# Altium integrated library Diodes - TVS.IntLib: 5379 symbols (part 24 of 122)
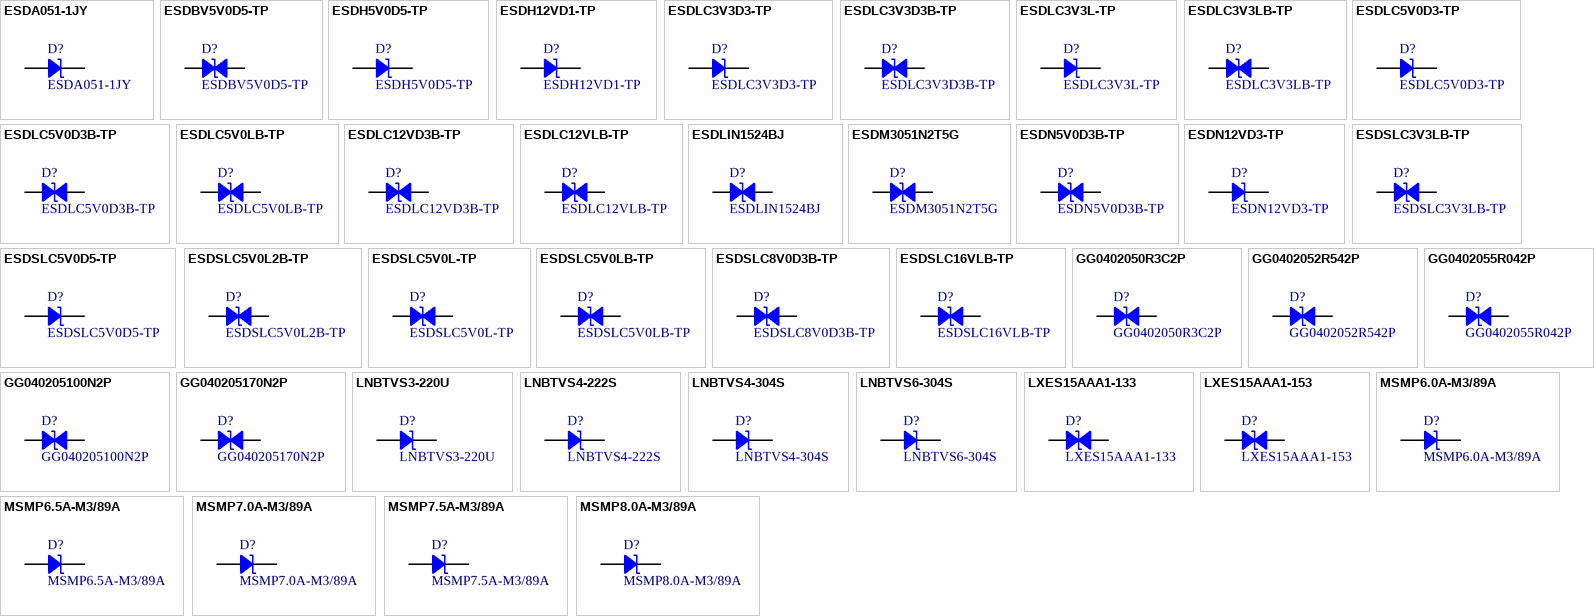
[diagram p157: symbols ESDA051-1JY to MSMP8.0A-M3/89A]

## ESDN5V0D3B-TP
designator D?
5V, ESD PROTECTION DEVICES, SOD-; Manufacturer: Micro Commercial Co; Bidirectional Channels: 1; Capacitance @ Frequency: 300pF @ 1MHz (Max); Current - Peak Pulse (10/1000µs): 120A (8/20µs); Power Line Protection: No; Power - Peak Pulse: 1620W; Type: Zener; Voltage - Breakdown (Min): 6V; Voltage - Clamping (Max) @ Ipp: 13.5V; Voltage - Reverse Standoff (Typ): 5V (Max); Part Number: ESDN5V0D3B-TP; Applications: General Purpose; ComponentLink1Description: Datasheet; ComponentLink1URL: https://mccsemi.com/pdf/Products/ESDN5V0D3B(SOD-323)-V1.pdf; ComponentLink2Description: DigiKey Link; ComponentLink2URL: http://digikey.com/product-detail/en/micro-commercial-co/ESDN5V0D3B-TP/353-ESDN5V0D3B-TPCT-ND/12177247; LastUpdated: 8/30/2020 9:07:52 PM; Lifecycle Status: Active; Minimum Order: 1; Mounting Type: Surface Mount; Operating Temperature: -55°C ~ 125°C (TJ); Package / Case: SC-76, SOD-323; Packaging: Unknown; PartId: 11459; Price: 0.06; Supplier 1: DigiKey; Supplier Part Number 1: 353-ESDN5V0D3B-TPCT-ND; Supplier Device Package: SOD-323
footprint SOD323
pins: 1, 2

## ESDN12VD3-TP
designator D?
TVS DIODE 12V 27V SOD323; Manufacturer: Micro Commercial Co; Current - Peak Pulse (10/1000µs): 20A (8/20µs); Power Line Protection: No; Power - Peak Pulse: 990W; Type: Zener; Unidirectional Channels: 1; Voltage - Breakdown (Min): 13V; Voltage - Reverse Standoff (Typ): 12V (Max); Part Number: ESDN12VD3-TP; Applications: General Purpose; ComponentLink1Description: Datasheet; ComponentLink1URL: https://www.mccsemi.com/pdf/Products/ESDN12VD3(SOD-323)-A.pdf; ComponentLink2Description: DigiKey Link; ComponentLink2URL: http://digikey.com/product-detail/en/micro-commercial-co/ESDN12VD3-TP/ESDN12VD3-TPMSCT-ND/6004821; LastUpdated: 9/2/2020 1:28:27 AM; Lifecycle Status: Active; Minimum Order: 1; Mounting Type: Surface Mount; Operating Temperature: -55°C ~ 150°C (TJ); Package / Case: SC-76, SOD-323; Packaging: TapeAndReel; PartId: 9886; Part Status: Active; Price: 0.13; Series: -; Supplier 1: DigiKey; Supplier Part Number 1: ESDN12VD3-TPMSCT-ND; Supplier Device Package: SOD-323; Voltage - Clamping (Max) @ Ipp: 27V
footprint SOD323
pins: 1, 2

## ESDSLC3V3LB-TP
designator D?
TVS DIODE 3.3V 20V DFN1006-2; Manufacturer: Micro Commercial Co; Bidirectional Channels: 1; Capacitance @ Frequency: 0.25pF @ 1MHz; Current - Peak Pulse (10/1000µs): 5A (8/20µs); Power Line Protection: No; Power - Peak Pulse: 100W; Type: Zener; Voltage - Breakdown (Min): 5V; Voltage - Reverse Standoff (Typ): 3.3V (Max); Part Number: ESDSLC3V3LB-TP; Applications: General Purpose; ComponentLink1Description: Datasheet; ComponentLink1URL: https://www.mccsemi.com/pdf/Products/ESDSLC3V3LB(DFN1006-2)-B.pdf; ComponentLink2Description: DigiKey Link; ComponentLink2URL: http://digikey.com/product-detail/en/micro-commercial-co/ESDSLC3V3LB-TP/ESDSLC3V3LB-TPMSCT-ND/7681673; Device Package: 0402 (1006 Metric); LastUpdated: 9/2/2020 1:28:48 AM; Lifecycle Status: Active; Minimum Order: 1; Mounting Type: Surface Mount; Operating Temperature: -55°C ~ 125°C (TJ); Package / Case: 0402 (1006 Metric); Packaging: TapeAndReel; PartId: 10421; Part Status: Active; Price: 0.04; Series: -; Supplier 1: DigiKey; Supplier Part Number 1: ESDSLC3V3LB-TPMSCT-ND; Supplier Device Package: DFN1006-2; Voltage - Clamping (Max) @ Ipp: 20V
footprint 0402
pins: 1, 2

## ESDSLC5V0D5-TP
designator D?
ESD PROTECTION DEVICESSOD-523; Manufacturer: Micro Commercial Co; Capacitance @ Frequency: 0.5pF @ 1MHz; Current - Peak Pulse (10/1000µs): 5A (8/20µs); Power Line Protection: No; Power - Peak Pulse: 80W; Type: Zener; Unidirectional Channels: 1; Voltage - Breakdown (Min): 6V; Voltage - Clamping (Max) @ Ipp: 16V; Voltage - Reverse Standoff (Typ): 5V (Max); Part Number: ESDSLC5V0D5-TP; Applications: General Purpose; ComponentLink1Description: Datasheet; ComponentLink1URL: https://www.mccsemi.com/pdf/Products/ESDSLC5V0D5(SOD-523)-V1.pdf; ComponentLink2Description: DigiKey Link; ComponentLink2URL: http://digikey.com/product-detail/en/micro-commercial-co/ESDSLC5V0D5-TP/ESDSLC5V0D5-TPMSCT-ND/10054352; LastUpdated: 9/2/2020 1:28:24 AM; Lifecycle Status: Active; Minimum Order: 1; Mounting Type: Surface Mount; Operating Temperature: -55°C ~ 125°C (TJ); Package / Case: SC-79, SOD-523; Packaging: TapeAndReel; PartId: 9789; Part Status: Active; Price: 0.05; Series: -; Supplier 1: DigiKey; Supplier Part Number 1: ESDSLC5V0D5-TPMSCT-ND; Supplier Device Package: SOD-523
footprint SOD523F
pins: 1, 2

## ESDSLC5V0L2B-TP
designator D?
5.5V, ESD PROTECTION DEVICES, DF; Manufacturer: Micro Commercial Co; Bidirectional Channels: 1; Capacitance @ Frequency: 0.15pF @ 1MHz; Current - Peak Pulse (10/1000µs): 3A (8/20µs); Power Line Protection: No; Power - Peak Pulse: 40W; Type: Zener; Voltage - Breakdown (Min): 6.5V; Voltage - Clamping (Max) @ Ipp: 15V; Voltage - Reverse Standoff (Typ): 5.5V (Max); Part Number: ESDSLC5V0L2B-TP; Applications: General Purpose; ComponentLink1Description: Datasheet; ComponentLink1URL: https://mccsemi.com/pdf/Products/ESDSLC5V0L2B(DFN1006-2L)-V1.pdf; ComponentLink2Description: DigiKey Link; ComponentLink2URL: http://digikey.com/product-detail/en/micro-commercial-co/ESDSLC5V0L2B-TP/353-ESDSLC5V0L2B-TPCT-ND/12177299; LastUpdated: 8/30/2020 9:08:11 PM; Lifecycle Status: Active; Minimum Order: 1; Mounting Type: Surface Mount; Operating Temperature: -55°C ~ 150°C (TJ); Package / Case: 0402 (1006 Metric); Packaging: Unknown; PartId: 11464; Price: 0.03; Supplier 1: DigiKey; Supplier Part Number 1: 353-ESDSLC5V0L2B-TPCT-ND; Supplier Device Package: DFN1006-2L
footprint 0402
pins: 1, 2

## ESDSLC5V0L-TP
designator D?
TVS DIODE 5V DFN1006-2; Manufacturer: Micro Commercial Co; Bidirectional Channels: 1; Capacitance @ Frequency: 0.5pF @ 1MHz; Current - Peak Pulse (10/1000µs): 4A (8/20µs); Power Line Protection: Yes; Power - Peak Pulse: 80W; Type: Zener; Voltage - Breakdown (Min): 6V; Voltage - Clamping (Max) @ Ipp: 16V; Voltage - Reverse Standoff (Typ): 5V (Max); Part Number: ESDSLC5V0L-TP; Applications: General Purpose; ComponentLink1Description: Datasheet; ComponentLink1URL: https://www.mccsemi.com/pdf/Products/ESDSLC5V0L(DFN1006-2)-V1.pdf; ComponentLink2Description: DigiKey Link; ComponentLink2URL: http://digikey.com/product-detail/en/micro-commercial-co/ESDSLC5V0L-TP/ESDSLC5V0L-TPMSCT-ND/10054448; Device Package: 0402 (1006 Metric); LastUpdated: 9/2/2020 1:28:48 AM; Lifecycle Status: Active; Minimum Order: 1; Mounting Type: Surface Mount; Operating Temperature: -55°C ~ 125°C (TJ); Package / Case: 0402 (1006 Metric); Packaging: TapeAndReel; PartId: 10425; Part Status: Active; Price: 0.05; Series: -; Supplier 1: DigiKey; Supplier Part Number 1: ESDSLC5V0L-TPMSCT-ND; Supplier Device Package: DFN1006-2
footprint 0402
pins: 1, 2

## ESDSLC5V0LB-TP
designator D?
TVS DIODE 5V 20V DFN1006; Manufacturer: Micro Commercial Co; Bidirectional Channels: 1; Capacitance @ Frequency: 0.26pF @ 1MHz; Current - Peak Pulse (10/1000µs): 4A (8/20µs); Power Line Protection: No; Power - Peak Pulse: 80W; Type: Zener; Voltage - Breakdown (Min): 6V; Voltage - Reverse Standoff (Typ): 5V (Max); Part Number: ESDSLC5V0LB-TP; Applications: General Purpose; ComponentLink1Description: Datasheet; ComponentLink1URL: https://www.mccsemi.com/pdf/Products/ESDSLC5V0LB(DFN1006-2)-A.pdf; ComponentLink2Description: DigiKey Link; ComponentLink2URL: http://digikey.com/product-detail/en/micro-commercial-co/ESDSLC5V0LB-TP/ESDSLC5V0LB-TPMSCT-ND/6004823; Device Package: 0402 (1006 Metric); LastUpdated: 9/2/2020 1:28:49 AM; Lifecycle Status: Active; Minimum Order: 1; Mounting Type: Surface Mount; Operating Temperature: -55°C ~ 125°C (TJ); Package / Case: 0402 (1006 Metric); Packaging: TapeAndReel; PartId: 10472; Part Status: Active; Price: 0.03; Series: -; Supplier 1: DigiKey; Supplier Part Number 1: ESDSLC5V0LB-TPMSCT-ND; Supplier Device Package: DFN1006; Voltage - Clamping (Max) @ Ipp: 20V
footprint 0402
pins: 1, 2

## ESDSLC8V0D3B-TP
designator D?
ESD PROTECTION DEVICESSOD-323; Manufacturer: Micro Commercial Co; Bidirectional Channels: 1; Capacitance @ Frequency: 1pF @ 1MHz; Current - Peak Pulse (10/1000µs): 18A (8/20µs); Power Line Protection: No; Power - Peak Pulse: 350W; Type: Zener; Voltage - Breakdown (Min): 8.5V; Voltage - Clamping (Max) @ Ipp: 19.5V; Voltage - Reverse Standoff (Typ): 8V (Max); Part Number: ESDSLC8V0D3B-TP; Applications: General Purpose; ComponentLink1Description: Datasheet; ComponentLink1URL: https://www.mccsemi.com/pdf/Products/ESDSLC8V0D3B(SOD-323)-V1.pdf; ComponentLink2Description: DigiKey Link; ComponentLink2URL: http://digikey.com/product-detail/en/micro-commercial-co/ESDSLC8V0D3B-TP/ESDSLC8V0D3B-TPMSCT-ND/10054353; LastUpdated: 9/2/2020 1:28:29 AM; Lifecycle Status: Active; Minimum Order: 1; Mounting Type: Surface Mount; Operating Temperature: -55°C ~ 150°C (TJ); Package / Case: SC-76, SOD-323; Packaging: TapeAndReel; PartId: 9976; Part Status: Active; Price: 0.08; Series: -; Supplier 1: DigiKey; Supplier Part Number 1: ESDSLC8V0D3B-TPMSCT-ND; Supplier Device Package: SOD-323
footprint SOD323
pins: 1, 2

## ESDSLC16VLB-TP
designator D?
TVS DIODE 16V 30V DFN1006-2; Manufacturer: Micro Commercial Co; Bidirectional Channels: 1; Capacitance @ Frequency: 0.7pF @ 1MHz; Current - Peak Pulse (10/1000µs): 1A (8/20µs); Power Line Protection: No; Power - Peak Pulse: 30W; Type: Zener; Voltage - Breakdown (Min): 18V; Voltage - Reverse Standoff (Typ): 16V (Max); Part Number: ESDSLC16VLB-TP; Applications: General Purpose; ComponentLink1Description: Datasheet; ComponentLink1URL: https://www.mccsemi.com/pdf/Products/ESDSLC16VLB(DFN1006-2)-A.pdf; ComponentLink2Description: DigiKey Link; ComponentLink2URL: http://digikey.com/product-detail/en/micro-commercial-co/ESDSLC16VLB-TP/ESDSLC16VLB-TPMSCT-ND/6004822; Device Package: 0402 (1006 Metric); LastUpdated: 9/2/2020 1:28:49 AM; Lifecycle Status: Active; Minimum Order: 1; Mounting Type: Surface Mount; Operating Temperature: -55°C ~ 125°C (TJ); Package / Case: 0402 (1006 Metric); Packaging: TapeAndReel; PartId: 10473; Part Status: Active; Price: 0.03; Series: -; Supplier 1: DigiKey; Supplier Part Number 1: ESDSLC16VLB-TPMSCT-ND; Supplier Device Package: DFN1006-2; Voltage - Clamping (Max) @ Ipp: 30V
footprint 0402
pins: 1, 2

## GG0402050R3C2P
designator D?
TVS DIODE 5V 15.5V 0402; Manufacturer: AVX Corporation; Bidirectional Channels: 1; Capacitance @ Frequency: 0.3pF @ 1MHz; Current - Peak Pulse (10/1000µs): 3A (8/20µs); Power Line Protection: No; Power - Peak Pulse: 46W; Type: Zener; Voltage - Breakdown (Min): 7V; Part Number: GG0402050R3C2P; Applications: General Purpose; ComponentLink1Description: Datasheet; ComponentLink1URL: http://datasheets.avx.com/AVX-GiGuard.pdf; ComponentLink2Description: DigiKey Link; ComponentLink2URL: http://digikey.com/product-detail/en/avx-corporation/GG0402050R3C2P/478-10591-1-ND/6826549; Device Package: 0402 (1005 Metric); LastUpdated: 9/2/2020 1:28:49 AM; Lifecycle Status: Active; Minimum Order: 1; Mounting Type: Surface Mount; Operating Temperature: 125°C; Package / Case: 0402 (1005 Metric); Packaging: TapeAndReel; PartId: 10447; Part Status: Active; Price: 0.05; Series: GiGUARD; Supplier 1: DigiKey; Supplier Part Number 1: 478-10591-1-ND; Supplier Device Package: 0402 (1005 Metric); Voltage - Clamping (Max) @ Ipp: 15.5V; Voltage - Reverse Standoff (Typ): 5V
footprint 0402
pins: 1, 2

## GG0402052R542P
designator D?
TVS DIODE 5V 15.5V 0402; Manufacturer: AVX Corporation; Bidirectional Channels: 1; Capacitance @ Frequency: 2.5pF @ 1MHz; Current - Peak Pulse (10/1000µs): 3A (8/20µs); Power Line Protection: No; Power - Peak Pulse: 46W; Type: Zener; Voltage - Breakdown (Min): 5.5V; Part Number: GG0402052R542P; Applications: General Purpose; ComponentLink1Description: Datasheet; ComponentLink1URL: http://datasheets.avx.com/AVX-GiGuard.pdf; ComponentLink2Description: DigiKey Link; ComponentLink2URL: http://digikey.com/product-detail/en/avx-corporation/GG0402052R542P/478-10592-1-ND/6826550; Device Package: 0402 (1005 Metric); LastUpdated: 9/2/2020 1:28:48 AM; Lifecycle Status: Active; Minimum Order: 1; Mounting Type: Surface Mount; Operating Temperature: 125°C; Package / Case: 0402 (1005 Metric); Packaging: TapeAndReel; PartId: 10423; Part Status: Active; Price: 0.04; Series: GiGUARD; Supplier 1: DigiKey; Supplier Part Number 1: 478-10592-1-ND; Supplier Device Package: 0402 (1005 Metric); Voltage - Clamping (Max) @ Ipp: 15.5V; Voltage - Reverse Standoff (Typ): 5V
footprint 0402
pins: 1, 2

## GG0402055R042P
designator D?
TVS DIODE 5V 16V 0402; Manufacturer: AVX Corporation; Bidirectional Channels: 1; Capacitance @ Frequency: 5pF @ 1MHz; Current - Peak Pulse (10/1000µs): 4A (8/20µs); Power Line Protection: No; Power - Peak Pulse: 60W; Type: Zener; Voltage - Breakdown (Min): 5.2V; Part Number: GG0402055R042P; Applications: General Purpose; ComponentLink1Description: Datasheet; ComponentLink1URL: http://datasheets.avx.com/AVX-GiGuard.pdf; ComponentLink2Description: DigiKey Link; ComponentLink2URL: http://digikey.com/product-detail/en/avx-corporation/GG0402055R042P/478-10593-1-ND/6826551; Device Package: 0402 (1005 Metric); LastUpdated: 9/2/2020 1:28:49 AM; Lifecycle Status: Active; Minimum Order: 1; Mounting Type: Surface Mount; Operating Temperature: 125°C; Package / Case: 0402 (1005 Metric); Packaging: TapeAndReel; PartId: 10499; Part Status: Active; Price: 0.04; Series: GiGUARD; Supplier 1: DigiKey; Supplier Part Number 1: 478-10593-1-ND; Supplier Device Package: 0402 (1005 Metric); Voltage - Clamping (Max) @ Ipp: 16V; Voltage - Reverse Standoff (Typ): 5V
footprint 0402
pins: 1, 2

## GG040205100N2P
designator D?
TVS DIODE 5V 12V 0402; Manufacturer: AVX Corporation; Bidirectional Channels: 1; Capacitance @ Frequency: 10pF @ 1MHz; Current - Peak Pulse (10/1000µs): 8A (8/20µs); Power Line Protection: No; Power - Peak Pulse: 96W; Type: Zener; Voltage - Breakdown (Min): 5.5V; Part Number: GG040205100N2P; Applications: General Purpose; ComponentLink1Description: Datasheet; ComponentLink1URL: http://datasheets.avx.com/AVX-GiGuard.pdf; ComponentLink2Description: DigiKey Link; ComponentLink2URL: http://digikey.com/product-detail/en/avx-corporation/GG040205100N2P/478-10594-1-ND/6826552; Device Package: 0402 (1005 Metric); LastUpdated: 9/2/2020 1:28:49 AM; Lifecycle Status: Active; Minimum Order: 1; Mounting Type: Surface Mount; Operating Temperature: 125°C; Package / Case: 0402 (1005 Metric); Packaging: TapeAndReel; PartId: 10449; Part Status: Active; Price: 0.04; Series: GiGUARD; Supplier 1: DigiKey; Supplier Part Number 1: 478-10594-1-ND; Supplier Device Package: 0402 (1005 Metric); Voltage - Clamping (Max) @ Ipp: 12V; Voltage - Reverse Standoff (Typ): 5V
footprint 0402
pins: 1, 2

## GG040205170N2P
designator D?
TVS DIODE 5V 10V 0402; Manufacturer: AVX Corporation; Bidirectional Channels: 1; Capacitance @ Frequency: 17pF @ 1MHz; Current - Peak Pulse (10/1000µs): 8A (8/20µs); Power Line Protection: No; Power - Peak Pulse: 80W; Type: Zener; Voltage - Breakdown (Min): 5.1V; Part Number: GG040205170N2P; Applications: General Purpose; ComponentLink1Description: Datasheet; ComponentLink1URL: http://datasheets.avx.com/AVX-GiGuard.pdf; ComponentLink2Description: DigiKey Link; ComponentLink2URL: http://digikey.com/product-detail/en/avx-corporation/GG040205170N2P/478-10595-1-ND/6826553; Device Package: 0402 (1005 Metric); LastUpdated: 9/2/2020 1:28:49 AM; Lifecycle Status: Active; Minimum Order: 1; Mounting Type: Surface Mount; Operating Temperature: 125°C; Package / Case: 0402 (1005 Metric); Packaging: TapeAndReel; PartId: 10450; Part Status: Active; Price: 0.04; Series: GiGUARD; Supplier 1: DigiKey; Supplier Part Number 1: 478-10595-1-ND; Supplier Device Package: 0402 (1005 Metric); Voltage - Clamping (Max) @ Ipp: 10V; Voltage - Reverse Standoff (Typ): 5V
footprint 0402
pins: 1, 2

## LNBTVS3-220U
designator D?
TVS DIODE 20V 35V SMB; Manufacturer: STMicroelectronics; Current - Peak Pulse (10/1000µs): 250A (8/20µs); Power Line Protection: No; Power - Peak Pulse: 22500 (22.5kW); Type: Zener; Unidirectional Channels: 1; Voltage - Breakdown (Min): 22V; Part Number: LNBTVS3-220U; Applications: General Purpose; ComponentLink1Description: Datasheet; ComponentLink1URL: http://www.st.com/content/ccc/resource/technical/document/datasheet/b0/6e/bc/89/3c/f1/41/b5/CD00283815.pdf/files/CD00283815.pdf/jcr:content/translations/en.CD00283815.pdf; ComponentLink2Description: DigiKey Link; ComponentLink2URL: http://digikey.com/product-detail/en/stmicroelectronics/LNBTVS3-220U/497-4991-1-ND/1007442; LastUpdated: 9/2/2020 1:19:51 AM; Lifecycle Status: Active; Minimum Order: 1; Mounting Type: Surface Mount; Operating Temperature: -55°C ~ 150°C (TJ); Package / Case: DO-214AA, SMB; Packaging: TapeAndReel; PartId: 11338; Part Status: Active; Price: 0.31; Series: LNBTVS, TRANSIL™; Supplier 1: DigiKey; Supplier Part Number 1: 497-4991-1-ND; Supplier Device Package: SMB (DO-214AA); Voltage - Clamping (Max) @ Ipp: 35V; Voltage - Reverse Standoff (Typ): 20V
footprint DO214AA SMB
pins: 1, 2

## LNBTVS4-222S
designator D?
TVS DIODE 20V 30V SMC; Manufacturer: STMicroelectronics; Current - Peak Pulse (10/1000µs): 334A (8/20µs); Power Line Protection: No; Power - Peak Pulse: 22500 (22.5kW); Type: Zener; Unidirectional Channels: 1; Voltage - Breakdown (Min): 22V; Part Number: LNBTVS4-222S; Applications: General Purpose; ComponentLink1Description: Datasheet; ComponentLink1URL: http://www.st.com/content/ccc/resource/technical/document/datasheet/b0/6e/bc/89/3c/f1/41/b5/CD00283815.pdf/files/CD00283815.pdf/jcr:content/translations/en.CD00283815.pdf; ComponentLink2Description: DigiKey Link; ComponentLink2URL: http://digikey.com/product-detail/en/stmicroelectronics/LNBTVS4-222S/497-4996-1-ND/1007447; LastUpdated: 9/2/2020 1:20:05 AM; Lifecycle Status: Active; Minimum Order: 1; Mounting Type: Surface Mount; Operating Temperature: -55°C ~ 150°C (TJ); Package / Case: DO-214AB, SMC; Packaging: TapeAndReel; PartId: 6978; Part Status: Active; Price: 0.52; Series: LNBTVS, TRANSIL™; Supplier 1: DigiKey; Supplier Part Number 1: 497-4996-1-ND; Supplier Device Package: SMC; Voltage - Clamping (Max) @ Ipp: 30V; Voltage - Reverse Standoff (Typ): 20V
footprint DO214AB SMC
pins: 1, 2

## LNBTVS4-304S
designator D?
TVS DIODE 28V 45V SMC; Manufacturer: STMicroelectronics; Current - Peak Pulse (10/1000µs): 334A (8/20µs); Power Line Protection: No; Power - Peak Pulse: 22500 (22.5kW); Type: Zener; Unidirectional Channels: 1; Voltage - Breakdown (Min): 30V; Part Number: LNBTVS4-304S; Applications: General Purpose; ComponentLink1Description: Datasheet; ComponentLink1URL: http://www.st.com/content/ccc/resource/technical/document/datasheet/b0/6e/bc/89/3c/f1/41/b5/CD00283815.pdf/files/CD00283815.pdf/jcr:content/translations/en.CD00283815.pdf; ComponentLink2Description: DigiKey Link; ComponentLink2URL: http://digikey.com/product-detail/en/stmicroelectronics/LNBTVS4-304S/497-12495-1-ND/2864662; LastUpdated: 9/2/2020 1:20:05 AM; Lifecycle Status: Active; Minimum Order: 1; Mounting Type: Surface Mount; Operating Temperature: -55°C ~ 150°C (TJ); Package / Case: DO-214AB, SMC; Packaging: TapeAndReel; PartId: 6959; Part Status: Active; Price: 0.69; Series: LNBTVS, TRANSIL™; Supplier 1: DigiKey; Supplier Part Number 1: 497-12495-1-ND; Supplier Device Package: SMC; Voltage - Clamping (Max) @ Ipp: 45V; Voltage - Reverse Standoff (Typ): 28V
footprint DO214AB SMC
pins: 1, 2

## LNBTVS6-304S
designator D?
TVS DIODE 28V 45V SMC; Manufacturer: STMicroelectronics; Current - Peak Pulse (10/1000µs): 500A (8/20µs); Power Line Protection: No; Power - Peak Pulse: 22500 (22.5kW); Type: Zener; Unidirectional Channels: 1; Voltage - Breakdown (Min): 30V; Part Number: LNBTVS6-304S; Applications: General Purpose; ComponentLink1Description: Datasheet; ComponentLink1URL: http://www.st.com/content/ccc/resource/technical/document/datasheet/b0/6e/bc/89/3c/f1/41/b5/CD00283815.pdf/files/CD00283815.pdf/_jcr_content/translations/en.CD00283815.pdf; ComponentLink2Description: DigiKey Link; ComponentLink2URL: http://digikey.com/product-detail/en/stmicroelectronics/LNBTVS6-304S/497-16437-1-ND/5974910; LastUpdated: 9/2/2020 1:20:05 AM; Lifecycle Status: Active; Minimum Order: 1; Mounting Type: Surface Mount; Operating Temperature: -55°C ~ 150°C (TJ); Package / Case: DO-214AB, SMC; Packaging: TapeAndReel; PartId: 6951; Part Status: Active; Price: 0.77; Series: LNBTVS, TRANSIL™; Supplier 1: DigiKey; Supplier Part Number 1: 497-16437-1-ND; Supplier Device Package: SMC; Voltage - Clamping (Max) @ Ipp: 45V; Voltage - Reverse Standoff (Typ): 28V
footprint DO214AB SMC
pins: 1, 2

## LXES15AAA1-133
designator D?
TVS DIODE 15V 1005; Manufacturer: Murata Electronics; Bidirectional Channels: 1; Capacitance @ Frequency: 0.05pF @ 1MHz; Power Line Protection: No; Type: Zener; Part Number: LXES15AAA1-133; Applications: General Purpose; ComponentLink1Description: Datasheet; ComponentLink1URL: https://www.murata.com/en-us/products/productdata/8796832759838/CRESD-E.pdf; ComponentLink2Description: DigiKey Link; ComponentLink2URL: http://digikey.com/product-detail/en/murata-electronics/LXES15AAA1-133/490-13209-2-ND/5843761; Device Package: 0402 (1005 Metric); LastUpdated: 9/2/2020 1:28:48 AM; Lifecycle Status: Active; Minimum Order: 0; Mounting Type: Surface Mount; Operating Temperature: -40°C ~ 85°C (TA); Package / Case: 0402 (1005 Metric); Packaging: TapeAndReel; PartId: 10424; Part Status: Active; Price: 0.04; Series: -; Supplier 1: DigiKey; Supplier Part Number 1: 490-13209-2-ND; Supplier Device Package: 1005; Voltage - Reverse Standoff (Typ): 15V
footprint 0402
pins: 1, 2

## LXES15AAA1-153
designator D?
TVS DIODE 4V 1005; Manufacturer: Murata Electronics; Bidirectional Channels: 1; Capacitance @ Frequency: 0.05pF @ 1MHz; Power Line Protection: No; Type: Zener; Part Number: LXES15AAA1-153; Applications: General Purpose; ComponentLink1Description: Datasheet; ComponentLink1URL: https://www.murata.com/en-us/products/productdata/8796832759838/CRESD-E.pdf; ComponentLink2Description: DigiKey Link; ComponentLink2URL: http://digikey.com/product-detail/en/murata-electronics/LXES15AAA1-153/490-13210-2-ND/5843762; Device Package: 0402 (1005 Metric); LastUpdated: 9/2/2020 1:28:49 AM; Lifecycle Status: Active; Minimum Order: 0; Mounting Type: Surface Mount; Operating Temperature: -40°C ~ 85°C (TA); Package / Case: 0402 (1005 Metric); Packaging: TapeAndReel; PartId: 10448; Part Status: Active; Price: 0.04; Series: -; Supplier 1: DigiKey; Supplier Part Number 1: 490-13210-2-ND; Supplier Device Package: 1005; Voltage - Reverse Standoff (Typ): 4V
footprint 0402
pins: 1, 2

## MSMP6.0A-M3/89A
designator D?
TVS DIODE 6VWM 10.3VC MICROSMP; Manufacturer: Vishay Semiconductor Diodes Division; Current - Peak Pulse (10/1000µs): 14.6A; Power Line Protection: No; Power - Peak Pulse: 150W; Type: Zener; Unidirectional Channels: 1; Voltage - Breakdown (Min): 6.67V; Voltage - Clamping (Max) @ Ipp: 10.3V; Voltage - Reverse Standoff (Typ): 6V; Part Number: MSMP6.0A-M3/89A; Applications: General Purpose; ComponentLink1Description: Datasheet; ComponentLink1URL: http://www.vishay.com/docs/89457/msmp6athrumsmp20a.pdf; ComponentLink2Description: DigiKey Link; ComponentLink2URL: http://digikey.com/product-detail/en/vishay-semiconductor-diodes-division/MSMP6.0A-M3-89A/MSMP6.0A-M3-89AGICT-ND/8535694; Device Package: MicroSMP; LastUpdated: 9/2/2020 1:28:32 AM; Lifecycle Status: Active; Minimum Order: 1; Mounting Type: Surface Mount; Operating Temperature: -55°C ~ 150°C (TJ); Package / Case: MicroSMP; Packaging: TapeAndReel; PartId: 10000; Part Status: Active; Price: 0.07; Series: TransZorb®; Supplier 1: DigiKey; Supplier Part Number 1: MSMP6.0A-M3/89AGICT-ND; Supplier Device Package: MicroSMP
footprint DO-219AD MicroSMP
pins: 1, 2

## MSMP6.5A-M3/89A
designator D?
TVS DIODE 6.5VWM 11.2VC MICROSMP; Manufacturer: Vishay Semiconductor Diodes Division; Current - Peak Pulse (10/1000µs): 13.4A; Power Line Protection: No; Power - Peak Pulse: 150W; Type: Zener; Unidirectional Channels: 1; Voltage - Breakdown (Min): 7.22V; Voltage - Clamping (Max) @ Ipp: 11.2V; Voltage - Reverse Standoff (Typ): 6.5V; Part Number: MSMP6.5A-M3/89A; Applications: General Purpose; ComponentLink1Description: Datasheet; ComponentLink1URL: http://www.vishay.com/docs/89457/msmp6athrumsmp20a.pdf; ComponentLink2Description: DigiKey Link; ComponentLink2URL: http://digikey.com/product-detail/en/vishay-semiconductor-diodes-division/MSMP6.5A-M3-89A/MSMP6.5A-M3-89AGICT-ND/8535695; Device Package: MicroSMP; LastUpdated: 9/2/2020 1:28:32 AM; Lifecycle Status: Active; Minimum Order: 1; Mounting Type: Surface Mount; Operating Temperature: -55°C ~ 150°C (TJ); Package / Case: MicroSMP; Packaging: TapeAndReel; PartId: 10001; Part Status: Active; Price: 0.07; Series: TransZorb®; Supplier 1: DigiKey; Supplier Part Number 1: MSMP6.5A-M3/89AGICT-ND; Supplier Device Package: MicroSMP
footprint DO-219AD MicroSMP
pins: 1, 2

## MSMP7.0A-M3/89A
designator D?
TVS DIODE 7VWM 12VC MICROSMP; Manufacturer: Vishay Semiconductor Diodes Division; Current - Peak Pulse (10/1000µs): 12.5A; Power Line Protection: No; Power - Peak Pulse: 150W; Type: Zener; Unidirectional Channels: 1; Voltage - Breakdown (Min): 7.78V; Voltage - Clamping (Max) @ Ipp: 12V; Voltage - Reverse Standoff (Typ): 7V; Part Number: MSMP7.0A-M3/89A; Applications: General Purpose; ComponentLink1Description: Datasheet; ComponentLink1URL: http://www.vishay.com/docs/89457/msmp6athrumsmp20a.pdf; ComponentLink2Description: DigiKey Link; ComponentLink2URL: http://digikey.com/product-detail/en/vishay-semiconductor-diodes-division/MSMP7.0A-M3-89A/MSMP7.0A-M3-89AGICT-ND/8535696; Device Package: MicroSMP; LastUpdated: 9/2/2020 1:28:32 AM; Lifecycle Status: Active; Minimum Order: 1; Mounting Type: Surface Mount; Operating Temperature: -55°C ~ 150°C (TJ); Package / Case: MicroSMP; Packaging: TapeAndReel; PartId: 10008; Part Status: Active; Price: 0.07; Series: TransZorb®; Supplier 1: DigiKey; Supplier Part Number 1: MSMP7.0A-M3/89AGICT-ND; Supplier Device Package: MicroSMP
footprint DO-219AD MicroSMP
pins: 1, 2

## MSMP7.5A-M3/89A
designator D?
TVS DIODE 7.5VWM 12.9VC MICROSMP; Manufacturer: Vishay Semiconductor Diodes Division; Current - Peak Pulse (10/1000µs): 11.6A; Power Line Protection: No; Power - Peak Pulse: 150W; Type: Zener; Unidirectional Channels: 1; Voltage - Breakdown (Min): 8.33V; Voltage - Clamping (Max) @ Ipp: 12.9V; Voltage - Reverse Standoff (Typ): 7.5V; Part Number: MSMP7.5A-M3/89A; Applications: General Purpose; ComponentLink1Description: Datasheet; ComponentLink1URL: http://www.vishay.com/docs/89457/msmp6athrumsmp20a.pdf; ComponentLink2Description: DigiKey Link; ComponentLink2URL: http://digikey.com/product-detail/en/vishay-semiconductor-diodes-division/MSMP7.5A-M3-89A/MSMP7.5A-M3-89AGICT-ND/8535697; Device Package: MicroSMP; LastUpdated: 9/2/2020 1:28:32 AM; Lifecycle Status: Active; Minimum Order: 1; Mounting Type: Surface Mount; Operating Temperature: -55°C ~ 150°C (TJ); Package / Case: MicroSMP; Packaging: TapeAndReel; PartId: 10007; Part Status: Active; Price: 0.07; Series: TransZorb®; Supplier 1: DigiKey; Supplier Part Number 1: MSMP7.5A-M3/89AGICT-ND; Supplier Device Package: MicroSMP
footprint DO-219AD MicroSMP
pins: 1, 2

## MSMP8.0A-M3/89A
designator D?
TVS DIODE 8VWM 13.6VC MICROSMP; Manufacturer: Vishay Semiconductor Diodes Division; Current - Peak Pulse (10/1000µs): 11A; Power Line Protection: No; Power - Peak Pulse: 150W; Type: Zener; Unidirectional Channels: 1; Voltage - Breakdown (Min): 8.89V; Voltage - Clamping (Max) @ Ipp: 13.6V; Voltage - Reverse Standoff (Typ): 8V; Part Number: MSMP8.0A-M3/89A; Applications: General Purpose; ComponentLink1Description: Datasheet; ComponentLink1URL: http://www.vishay.com/docs/89457/msmp6athrumsmp20a.pdf; ComponentLink2Description: DigiKey Link; ComponentLink2URL: http://digikey.com/product-detail/en/vishay-semiconductor-diodes-division/MSMP8.0A-M3-89A/MSMP8.0A-M3-89AGICT-ND/8535698; Device Package: MicroSMP; LastUpdated: 9/2/2020 1:28:32 AM; Lifecycle Status: Active; Minimum Order: 1; Mounting Type: Surface Mount; Operating Temperature: -55°C ~ 150°C (TJ); Package / Case: MicroSMP; Packaging: TapeAndReel; PartId: 10006; Part Status: Active; Price: 0.07; Series: TransZorb®; Supplier 1: DigiKey; Supplier Part Number 1: MSMP8.0A-M3/89AGICT-ND; Supplier Device Package: MicroSMP
footprint DO-219AD MicroSMP
pins: 1, 2

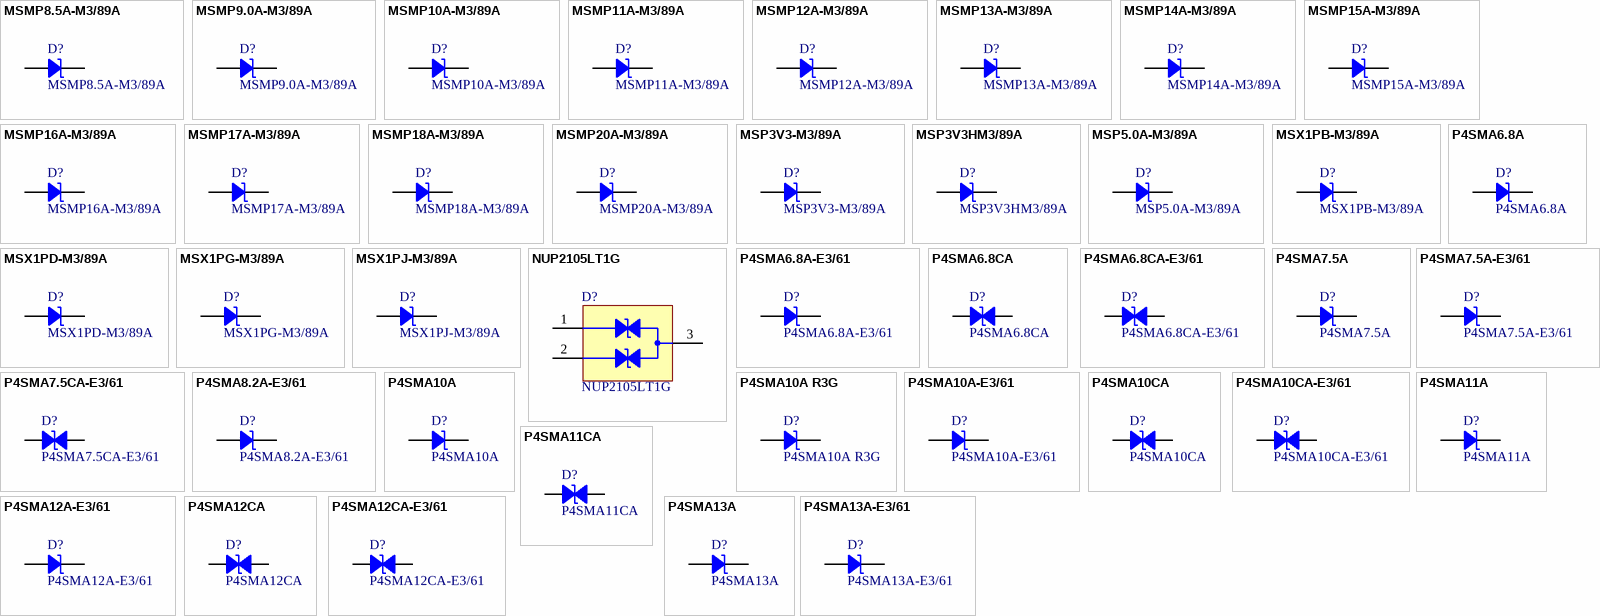
[diagram p26: symbols MSMP8.5A-M3/89A to P4SMA13A-E3/61]

## MSMP8.5A-M3/89A
designator D?
TVS DIODE 8.5VWM 14.4VC MICROSMP; Manufacturer: Vishay Semiconductor Diodes Division; Current - Peak Pulse (10/1000µs): 10.4A; Power Line Protection: No; Power - Peak Pulse: 150W; Type: Zener; Unidirectional Channels: 1; Voltage - Breakdown (Min): 9.44V; Voltage - Clamping (Max) @ Ipp: 14.4V; Voltage - Reverse Standoff (Typ): 8.5V; Part Number: MSMP8.5A-M3/89A; Applications: General Purpose; ComponentLink1Description: Datasheet; ComponentLink1URL: http://www.vishay.com/docs/89457/msmp6athrumsmp20a.pdf; ComponentLink2Description: DigiKey Link; ComponentLink2URL: http://digikey.com/product-detail/en/vishay-semiconductor-diodes-division/MSMP8.5A-M3-89A/MSMP8.5A-M3-89AGICT-ND/8535699; Device Package: MicroSMP; LastUpdated: 9/2/2020 1:28:32 AM; Lifecycle Status: Active; Minimum Order: 1; Mounting Type: Surface Mount; Operating Temperature: -55°C ~ 150°C (TJ); Package / Case: MicroSMP; Packaging: TapeAndReel; PartId: 10010; Part Status: Active; Price: 0.06; Series: TransZorb®; Supplier 1: DigiKey; Supplier Part Number 1: MSMP8.5A-M3/89AGICT-ND; Supplier Device Package: MicroSMP
footprint DO-219AD MicroSMP
pins: 1, 2

## MSMP9.0A-M3/89A
designator D?
TVS DIODE 9VWM 15.4VC MICROSMP; Manufacturer: Vishay Semiconductor Diodes Division; Current - Peak Pulse (10/1000µs): 9.7A; Power Line Protection: No; Power - Peak Pulse: 150W; Type: Zener; Unidirectional Channels: 1; Voltage - Breakdown (Min): 10V; Voltage - Clamping (Max) @ Ipp: 15.4V; Voltage - Reverse Standoff (Typ): 9V; Part Number: MSMP9.0A-M3/89A; Applications: General Purpose; ComponentLink1Description: Datasheet; ComponentLink1URL: http://www.vishay.com/docs/89457/msmp6athrumsmp20a.pdf; ComponentLink2Description: DigiKey Link; ComponentLink2URL: http://digikey.com/product-detail/en/vishay-semiconductor-diodes-division/MSMP9.0A-M3-89A/MSMP9.0A-M3-89AGICT-ND/8535700; Device Package: MicroSMP; LastUpdated: 9/2/2020 1:28:32 AM; Lifecycle Status: Active; Minimum Order: 1; Mounting Type: Surface Mount; Operating Temperature: -55°C ~ 150°C (TJ); Package / Case: MicroSMP; Packaging: TapeAndReel; PartId: 10009; Part Status: Active; Price: 0.06; Series: TransZorb®; Supplier 1: DigiKey; Supplier Part Number 1: MSMP9.0A-M3/89AGICT-ND; Supplier Device Package: MicroSMP
footprint DO-219AD MicroSMP
pins: 1, 2

## MSMP10A-M3/89A
designator D?
TVS DIODE 10VWM 17VC MICROSMP; Manufacturer: Vishay Semiconductor Diodes Division; Current - Peak Pulse (10/1000µs): 8.8A; Power Line Protection: No; Power - Peak Pulse: 150W; Type: Zener; Unidirectional Channels: 1; Voltage - Breakdown (Min): 11.1V; Voltage - Clamping (Max) @ Ipp: 17V; Voltage - Reverse Standoff (Typ): 10V; Part Number: MSMP10A-M3/89A; Applications: General Purpose; ComponentLink1Description: Datasheet; ComponentLink1URL: http://www.vishay.com/docs/89457/msmp6athrumsmp20a.pdf; ComponentLink2Description: DigiKey Link; ComponentLink2URL: http://digikey.com/product-detail/en/vishay-semiconductor-diodes-division/MSMP10A-M3-89A/MSMP10A-M3-89AGICT-ND/8535684; Device Package: MicroSMP; LastUpdated: 9/2/2020 1:28:32 AM; Lifecycle Status: Active; Minimum Order: 1; Mounting Type: Surface Mount; Operating Temperature: -55°C ~ 150°C (TJ); Package / Case: MicroSMP; Packaging: TapeAndReel; PartId: 10017; Part Status: Active; Price: 0.06; Series: TransZorb®; Supplier 1: DigiKey; Supplier Part Number 1: MSMP10A-M3/89AGICT-ND; Supplier Device Package: MicroSMP
footprint DO-219AD MicroSMP
pins: 1, 2

## MSMP11A-M3/89A
designator D?
TVS DIODE 11VWM 18.2VC MICROSMP; Manufacturer: Vishay Semiconductor Diodes Division; Current - Peak Pulse (10/1000µs): 8.2A; Power Line Protection: No; Power - Peak Pulse: 150W; Type: Zener; Unidirectional Channels: 1; Voltage - Breakdown (Min): 12.2V; Voltage - Clamping (Max) @ Ipp: 18.2V; Voltage - Reverse Standoff (Typ): 11V; Part Number: MSMP11A-M3/89A; Applications: General Purpose; ComponentLink1Description: Datasheet; ComponentLink1URL: http://www.vishay.com/docs/89457/msmp6athrumsmp20a.pdf; ComponentLink2Description: DigiKey Link; ComponentLink2URL: http://digikey.com/product-detail/en/vishay-semiconductor-diodes-division/MSMP11A-M3-89A/MSMP11A-M3-89AGICT-ND/8535685; Device Package: MicroSMP; LastUpdated: 9/2/2020 1:28:32 AM; Lifecycle Status: Active; Minimum Order: 1; Mounting Type: Surface Mount; Operating Temperature: -55°C ~ 150°C (TJ); Package / Case: MicroSMP; Packaging: TapeAndReel; PartId: 10019; Part Status: Active; Price: 0.06; Series: TransZorb®; Supplier 1: DigiKey; Supplier Part Number 1: MSMP11A-M3/89AGICT-ND; Supplier Device Package: MicroSMP
footprint DO-219AD MicroSMP
pins: 1, 2

## MSMP12A-M3/89A
designator D?
TVS DIODE 12VWM 19.9VC MICROSMP; Manufacturer: Vishay Semiconductor Diodes Division; Current - Peak Pulse (10/1000µs): 7.5A; Power Line Protection: No; Power - Peak Pulse: 150W; Type: Zener; Unidirectional Channels: 1; Voltage - Breakdown (Min): 13.3V; Voltage - Clamping (Max) @ Ipp: 19.9V; Voltage - Reverse Standoff (Typ): 12V; Part Number: MSMP12A-M3/89A; Applications: General Purpose; ComponentLink1Description: Datasheet; ComponentLink1URL: http://www.vishay.com/docs/89457/msmp6athrumsmp20a.pdf; ComponentLink2Description: DigiKey Link; ComponentLink2URL: http://digikey.com/product-detail/en/vishay-semiconductor-diodes-division/MSMP12A-M3-89A/MSMP12A-M3-89AGICT-ND/8535686; Device Package: MicroSMP; LastUpdated: 9/2/2020 1:28:32 AM; Lifecycle Status: Active; Minimum Order: 1; Mounting Type: Surface Mount; Operating Temperature: -55°C ~ 150°C (TJ); Package / Case: MicroSMP; Packaging: TapeAndReel; PartId: 10016; Part Status: Active; Price: 0.06; Series: TransZorb®; Supplier 1: DigiKey; Supplier Part Number 1: MSMP12A-M3/89AGICT-ND; Supplier Device Package: MicroSMP
footprint DO-219AD MicroSMP
pins: 1, 2

## MSMP13A-M3/89A
designator D?
TVS DIODE 13VWM 21.5VC MICROSMP; Manufacturer: Vishay Semiconductor Diodes Division; Current - Peak Pulse (10/1000µs): 7A; Power Line Protection: No; Power - Peak Pulse: 150W; Type: Zener; Unidirectional Channels: 1; Voltage - Breakdown (Min): 14.4V; Voltage - Clamping (Max) @ Ipp: 21.5V; Voltage - Reverse Standoff (Typ): 13V; Part Number: MSMP13A-M3/89A; Applications: General Purpose; ComponentLink1Description: Datasheet; ComponentLink1URL: http://www.vishay.com/docs/89457/msmp6athrumsmp20a.pdf; ComponentLink2Description: DigiKey Link; ComponentLink2URL: http://digikey.com/product-detail/en/vishay-semiconductor-diodes-division/MSMP13A-M3-89A/MSMP13A-M3-89AGICT-ND/8535687; Device Package: MicroSMP; LastUpdated: 9/2/2020 1:28:32 AM; Lifecycle Status: Active; Minimum Order: 1; Mounting Type: Surface Mount; Operating Temperature: -55°C ~ 150°C (TJ); Package / Case: MicroSMP; Packaging: TapeAndReel; PartId: 10015; Part Status: Active; Price: 0.06; Series: TransZorb®; Supplier 1: DigiKey; Supplier Part Number 1: MSMP13A-M3/89AGICT-ND; Supplier Device Package: MicroSMP
footprint DO-219AD MicroSMP
pins: 1, 2

## MSMP14A-M3/89A
designator D?
TVS DIODE 14VWM 23.2VC MICROSMP; Manufacturer: Vishay Semiconductor Diodes Division; Current - Peak Pulse (10/1000µs): 6.5A; Power Line Protection: No; Power - Peak Pulse: 150W; Type: Zener; Unidirectional Channels: 1; Voltage - Breakdown (Min): 15.6V; Voltage - Clamping (Max) @ Ipp: 23.2V; Voltage - Reverse Standoff (Typ): 14V; Part Number: MSMP14A-M3/89A; Applications: General Purpose; ComponentLink1Description: Datasheet; ComponentLink1URL: http://www.vishay.com/docs/89457/msmp6athrumsmp20a.pdf; ComponentLink2Description: DigiKey Link; ComponentLink2URL: http://digikey.com/product-detail/en/vishay-semiconductor-diodes-division/MSMP14A-M3-89A/MSMP14A-M3-89AGICT-ND/8535688; Device Package: MicroSMP; LastUpdated: 9/2/2020 1:28:32 AM; Lifecycle Status: Active; Minimum Order: 1; Mounting Type: Surface Mount; Operating Temperature: -55°C ~ 150°C (TJ); Package / Case: MicroSMP; Packaging: TapeAndReel; PartId: 10014; Part Status: Active; Price: 0.06; Series: TransZorb®; Supplier 1: DigiKey; Supplier Part Number 1: MSMP14A-M3/89AGICT-ND; Supplier Device Package: MicroSMP
footprint DO-219AD MicroSMP
pins: 1, 2

## MSMP15A-M3/89A
designator D?
TVS DIODE 15VWM 24.4VC MICROSMP; Manufacturer: Vishay Semiconductor Diodes Division; Current - Peak Pulse (10/1000µs): 6.2A; Power Line Protection: No; Power - Peak Pulse: 150W; Type: Zener; Unidirectional Channels: 1; Voltage - Breakdown (Min): 16.7V; Voltage - Clamping (Max) @ Ipp: 24.4V; Voltage - Reverse Standoff (Typ): 15V; Part Number: MSMP15A-M3/89A; Applications: General Purpose; ComponentLink1Description: Datasheet; ComponentLink1URL: http://www.vishay.com/docs/89457/msmp6athrumsmp20a.pdf; ComponentLink2Description: DigiKey Link; ComponentLink2URL: http://digikey.com/product-detail/en/vishay-semiconductor-diodes-division/MSMP15A-M3-89A/MSMP15A-M3-89AGICT-ND/8535689; Device Package: MicroSMP; LastUpdated: 9/2/2020 1:28:32 AM; Lifecycle Status: Active; Minimum Order: 1; Mounting Type: Surface Mount; Operating Temperature: -55°C ~ 150°C (TJ); Package / Case: MicroSMP; Packaging: TapeAndReel; PartId: 10013; Part Status: Active; Price: 0.06; Series: TransZorb®; Supplier 1: DigiKey; Supplier Part Number 1: MSMP15A-M3/89AGICT-ND; Supplier Device Package: MicroSMP
footprint DO-219AD MicroSMP
pins: 1, 2

## MSMP16A-M3/89A
designator D?
TVS DIODE 16VWM 26VC MICROSMP; Manufacturer: Vishay Semiconductor Diodes Division; Current - Peak Pulse (10/1000µs): 5.8A; Power Line Protection: No; Power - Peak Pulse: 150W; Type: Zener; Unidirectional Channels: 1; Voltage - Breakdown (Min): 17.8V; Voltage - Clamping (Max) @ Ipp: 26V; Voltage - Reverse Standoff (Typ): 16V; Part Number: MSMP16A-M3/89A; Applications: General Purpose; ComponentLink1Description: Datasheet; ComponentLink1URL: http://www.vishay.com/docs/89457/msmp6athrumsmp20a.pdf; ComponentLink2Description: DigiKey Link; ComponentLink2URL: http://digikey.com/product-detail/en/vishay-semiconductor-diodes-division/MSMP16A-M3-89A/MSMP16A-M3-89AGICT-ND/8535690; Device Package: MicroSMP; LastUpdated: 9/2/2020 1:28:32 AM; Lifecycle Status: Active; Minimum Order: 1; Mounting Type: Surface Mount; Operating Temperature: -55°C ~ 150°C (TJ); Package / Case: MicroSMP; Packaging: TapeAndReel; PartId: 10012; Part Status: Active; Price: 0.06; Series: TransZorb®; Supplier 1: DigiKey; Supplier Part Number 1: MSMP16A-M3/89AGICT-ND; Supplier Device Package: MicroSMP
footprint DO-219AD MicroSMP
pins: 1, 2

## MSMP17A-M3/89A
designator D?
TVS DIODE 17VWM 27.6VC MICROSMP; Manufacturer: Vishay Semiconductor Diodes Division; Current - Peak Pulse (10/1000µs): 5.4A; Power Line Protection: No; Power - Peak Pulse: 150W; Type: Zener; Unidirectional Channels: 1; Voltage - Breakdown (Min): 18.9V; Voltage - Clamping (Max) @ Ipp: 27.6V; Voltage - Reverse Standoff (Typ): 17V; Part Number: MSMP17A-M3/89A; Applications: General Purpose; ComponentLink1Description: Datasheet; ComponentLink1URL: http://www.vishay.com/docs/89457/msmp6athrumsmp20a.pdf; ComponentLink2Description: DigiKey Link; ComponentLink2URL: http://digikey.com/product-detail/en/vishay-semiconductor-diodes-division/MSMP17A-M3-89A/MSMP17A-M3-89AGICT-ND/8535691; Device Package: MicroSMP; LastUpdated: 9/2/2020 1:28:32 AM; Lifecycle Status: Active; Minimum Order: 1; Mounting Type: Surface Mount; Operating Temperature: -55°C ~ 150°C (TJ); Package / Case: MicroSMP; Packaging: TapeAndReel; PartId: 10011; Part Status: Active; Price: 0.06; Series: TransZorb®; Supplier 1: DigiKey; Supplier Part Number 1: MSMP17A-M3/89AGICT-ND; Supplier Device Package: MicroSMP
footprint DO-219AD MicroSMP
pins: 1, 2

## MSMP18A-M3/89A
designator D?
TVS DIODE 18VWM 29.2VC MICROSMP; Manufacturer: Vishay Semiconductor Diodes Division; Current - Peak Pulse (10/1000µs): 5.1A; Power Line Protection: No; Power - Peak Pulse: 150W; Type: Zener; Unidirectional Channels: 1; Voltage - Breakdown (Min): 20V; Voltage - Clamping (Max) @ Ipp: 29.2V; Voltage - Reverse Standoff (Typ): 18V; Part Number: MSMP18A-M3/89A; Applications: General Purpose; ComponentLink1Description: Datasheet; ComponentLink1URL: http://www.vishay.com/docs/89457/msmp6athrumsmp20a.pdf; ComponentLink2Description: DigiKey Link; ComponentLink2URL: http://digikey.com/product-detail/en/vishay-semiconductor-diodes-division/MSMP18A-M3-89A/MSMP18A-M3-89AGICT-ND/8535692; Device Package: MicroSMP; LastUpdated: 9/2/2020 1:28:32 AM; Lifecycle Status: Active; Minimum Order: 1; Mounting Type: Surface Mount; Operating Temperature: -55°C ~ 150°C (TJ); Package / Case: MicroSMP; Packaging: TapeAndReel; PartId: 10020; Part Status: Active; Price: 0.06; Series: TransZorb®; Supplier 1: DigiKey; Supplier Part Number 1: MSMP18A-M3/89AGICT-ND; Supplier Device Package: MicroSMP
footprint DO-219AD MicroSMP
pins: 1, 2

## MSMP20A-M3/89A
designator D?
TVS DIODE 20VWM 32.4VC MICROSMP; Manufacturer: Vishay Semiconductor Diodes Division; Current - Peak Pulse (10/1000µs): 4.6A; Power Line Protection: No; Power - Peak Pulse: 150W; Type: Zener; Unidirectional Channels: 1; Voltage - Breakdown (Min): 22.2V; Voltage - Clamping (Max) @ Ipp: 32.4V; Voltage - Reverse Standoff (Typ): 20V; Part Number: MSMP20A-M3/89A; Applications: General Purpose; ComponentLink1Description: Datasheet; ComponentLink1URL: http://www.vishay.com/docs/89457/msmp6athrumsmp20a.pdf; ComponentLink2Description: DigiKey Link; ComponentLink2URL: http://digikey.com/product-detail/en/vishay-semiconductor-diodes-division/MSMP20A-M3-89A/MSMP20A-M3-89AGICT-ND/8535693; Device Package: MicroSMP; LastUpdated: 9/2/2020 1:28:32 AM; Lifecycle Status: Active; Minimum Order: 1; Mounting Type: Surface Mount; Operating Temperature: -55°C ~ 150°C (TJ); Package / Case: MicroSMP; Packaging: TapeAndReel; PartId: 10018; Part Status: Active; Price: 0.06; Series: TransZorb®; Supplier 1: DigiKey; Supplier Part Number 1: MSMP20A-M3/89AGICT-ND; Supplier Device Package: MicroSMP
footprint DO-219AD MicroSMP
pins: 1, 2

## MSP3V3-M3/89A
designator D?
TVS DIODE 3.3V 11.5V MICROSMP; Manufacturer: Vishay Semiconductor Diodes Division; Current - Peak Pulse (10/1000µs): 87A (8/20µs); Power Line Protection: No; Power - Peak Pulse: 150W; Type: Zener; Unidirectional Channels: 1; Voltage - Breakdown (Min): 4.1V; Part Number: MSP3V3-M3/89A; Applications: General Purpose; ComponentLink1Description: Datasheet; ComponentLink1URL: http://www.vishay.com/docs/88486/msp3v3.pdf; ComponentLink2Description: DigiKey Link; ComponentLink2URL: http://digikey.com/product-detail/en/vishay-semiconductor-diodes-division/MSP3V3-M3-89A/MSP3V3-M3-89AGICT-ND/2071756; LastUpdated: 9/2/2020 1:28:32 AM; Lifecycle Status: Active; Minimum Order: 1; Mounting Type: Surface Mount; Operating Temperature: -55°C ~ 150°C (TJ); Package / Case: DO-219AD; Packaging: TapeAndReel; PartId: 10002; Part Status: Active; Price: 0.06; Series: TransZorb®, eSMP®; Supplier 1: DigiKey; Supplier Part Number 1: MSP3V3-M3/89AGICT-ND; Supplier Device Package: MicroSMP (DO-219AD); Voltage - Clamping (Max) @ Ipp: 11.5V; Voltage - Reverse Standoff (Typ): 3.3V
footprint DO-219AD MicroSMP
pins: 1, 2

## MSP3V3HM3/89A
designator D?
TVS DIODE 3.3V 11.5V MICROSMP; Manufacturer: Vishay Semiconductor Diodes Division; Current - Peak Pulse (10/1000µs): 87A (8/20µs); Power Line Protection: No; Power - Peak Pulse: 150W; Type: Zener; Unidirectional Channels: 1; Voltage - Breakdown (Min): 4.1V; Part Number: MSP3V3HM3/89A; Applications: Automotive; ComponentLink1Description: Datasheet; ComponentLink1URL: http://www.vishay.com/docs/88486/msp3v3.pdf; ComponentLink2Description: DigiKey Link; ComponentLink2URL: http://digikey.com/product-detail/en/vishay-semiconductor-diodes-division/MSP3V3HM3-89A/MSP3V3HM3-89AGICT-ND/8284101; LastUpdated: 9/2/2020 1:28:32 AM; Lifecycle Status: Active; Minimum Order: 1; Mounting Type: Surface Mount; Operating Temperature: -55°C ~ 150°C (TJ); Package / Case: DO-219AD; Packaging: TapeAndReel; PartId: 9997; Part Status: Active; Price: 0.07; Series: Automotive, AEC-Q101, TransZorb®, eSMP™; Supplier 1: DigiKey; Supplier Part Number 1: MSP3V3HM3/89AGICT-ND; Supplier Device Package: MicroSMP (DO-219AD); Voltage - Clamping (Max) @ Ipp: 11.5V; Voltage - Reverse Standoff (Typ): 3.3V
footprint DO-219AD MicroSMP
pins: 1, 2

## MSP5.0A-M3/89A
designator D?
TVS DIODE 5V 10.9V MICROSMP; Manufacturer: Vishay Semiconductor Diodes Division; Current - Peak Pulse (10/1000µs): 10.9A; Power Line Protection: No; Power - Peak Pulse: 100W; Type: Zener; Unidirectional Channels: 1; Voltage - Breakdown (Min): 6.4V; Part Number: MSP5.0A-M3/89A; Applications: General Purpose; ComponentLink1Description: Datasheet; ComponentLink1URL: //media.digikey.com/pdf/Data%20Sheets/Vishay%20Semiconductors/MSP5.0A.pdf; ComponentLink2Description: DigiKey Link; ComponentLink2URL: http://digikey.com/product-detail/en/vishay-semiconductor-diodes-division/MSP5.0A-M3-89A/MSP5.0A-M3-89AGICT-ND/2071757; Device Package: MicroSMP; LastUpdated: 9/2/2020 1:28:32 AM; Lifecycle Status: Active; Minimum Order: 1; Mounting Type: Surface Mount; Operating Temperature: -55°C ~ 150°C (TJ); Package / Case: MicroSMP; Packaging: TapeAndReel; PartId: 10003; Part Status: Active; Price: 0.07; Series: TransZorb®, eSMP®; Supplier 1: DigiKey; Supplier Part Number 1: MSP5.0A-M3/89AGICT-ND; Supplier Device Package: MicroSMP; Voltage - Clamping (Max) @ Ipp: 10.9V; Voltage - Reverse Standoff (Typ): 5V
footprint DO-219AD MicroSMP
pins: 1, 2

## MSX1PB-M3/89A
designator D?
TVS DIODE 100V MICROSMP; Manufacturer: Vishay Semiconductor Diodes Division; Power Line Protection: No; Type: Zener; Unidirectional Channels: 1; Part Number: MSX1PB-M3/89A; Applications: General Purpose; ComponentLink1Description: Datasheet; ComponentLink1URL: http://www.vishay.com/docs/87726/msx1pb-msx1pd-msx1pg-msx1pj.pdf; ComponentLink2Description: DigiKey Link; ComponentLink2URL: http://digikey.com/product-detail/en/vishay-semiconductor-diodes-division/MSX1PB-M3-89A/MSX1PB-M3-89AGICT-ND/8535701; LastUpdated: 9/2/2020 1:28:32 AM; Lifecycle Status: Active; Minimum Order: 1; Mounting Type: Surface Mount; Operating Temperature: -55°C ~ 175°C (TJ); Package / Case: DO-219AD; Packaging: TapeAndReel; PartId: 9998; Part Status: Active; Price: 0.07; Series: eSMP®; Supplier 1: DigiKey; Supplier Part Number 1: MSX1PB-M3/89AGICT-ND; Supplier Device Package: MicroSMP (DO-219AD); Voltage - Reverse Standoff (Typ): 100V
footprint DO-219AD MicroSMP
pins: 1, 2

## MSX1PD-M3/89A
designator D?
TVS DIODE 200VWM; Manufacturer: Vishay Semiconductor Diodes Division; Power Line Protection: No; Type: Zener; Unidirectional Channels: 1; Voltage - Reverse Standoff (Typ): 200V; Part Number: MSX1PD-M3/89A; Applications: General Purpose; ComponentLink1Description: Datasheet; ComponentLink1URL: http://www.vishay.com/docs/87726/msx1pb-msx1pd-msx1pg-msx1pj.pdf; ComponentLink2Description: DigiKey Link; ComponentLink2URL: http://digikey.com/product-detail/en/vishay-semiconductor-diodes-division/MSX1PD-M3-89A/MSX1PD-M3-89AGICT-ND/8535702; LastUpdated: 9/2/2020 1:28:32 AM; Lifecycle Status: Active; Minimum Order: 1; Mounting Type: Surface Mount; Operating Temperature: -55°C ~ 175°C (TJ); Package / Case: DO-219AD; Packaging: TapeAndReel; PartId: 10005; Part Status: Active; Price: 0.07; Series: eSMP®; Supplier 1: DigiKey; Supplier Part Number 1: MSX1PD-M3/89AGICT-ND; Supplier Device Package: MicroSMP (DO-219AD)
footprint DO-219AD MicroSMP
pins: 1, 2

## MSX1PG-M3/89A
designator D?
TVS DIODE 400VWM; Manufacturer: Vishay Semiconductor Diodes Division; Power Line Protection: No; Type: Zener; Unidirectional Channels: 1; Voltage - Reverse Standoff (Typ): 400V; Part Number: MSX1PG-M3/89A; Applications: General Purpose; ComponentLink1Description: Datasheet; ComponentLink1URL: http://www.vishay.com/docs/87726/msx1pb-msx1pd-msx1pg-msx1pj.pdf; ComponentLink2Description: DigiKey Link; ComponentLink2URL: http://digikey.com/product-detail/en/vishay-semiconductor-diodes-division/MSX1PG-M3-89A/MSX1PG-M3-89AGICT-ND/8535703; LastUpdated: 9/2/2020 1:28:32 AM; Lifecycle Status: Active; Minimum Order: 1; Mounting Type: Surface Mount; Operating Temperature: -55°C ~ 175°C (TJ); Package / Case: DO-219AD; Packaging: TapeAndReel; PartId: 10004; Part Status: Active; Price: 0.07; Series: eSMP®; Supplier 1: DigiKey; Supplier Part Number 1: MSX1PG-M3/89AGICT-ND; Supplier Device Package: MicroSMP (DO-219AD)
footprint DO-219AD MicroSMP
pins: 1, 2

## MSX1PJ-M3/89A
designator D?
TVS DIODE 600VWM; Manufacturer: Vishay Semiconductor Diodes Division; Power Line Protection: No; Type: Zener; Unidirectional Channels: 1; Voltage - Reverse Standoff (Typ): 600V; Part Number: MSX1PJ-M3/89A; Applications: General Purpose; ComponentLink1Description: Datasheet; ComponentLink1URL: http://www.vishay.com/docs/87726/msx1pb-msx1pd-msx1pg-msx1pj.pdf; ComponentLink2Description: DigiKey Link; ComponentLink2URL: http://digikey.com/product-detail/en/vishay-semiconductor-diodes-division/MSX1PJ-M3-89A/MSX1PJ-M3-89AGICT-ND/8535704; LastUpdated: 9/2/2020 1:28:32 AM; Lifecycle Status: Active; Minimum Order: 1; Mounting Type: Surface Mount; Operating Temperature: -55°C ~ 175°C (TJ); Package / Case: DO-219AD; Packaging: TapeAndReel; PartId: 9999; Part Status: Active; Price: 0.07; Series: eSMP®; Supplier 1: DigiKey; Supplier Part Number 1: MSX1PJ-M3/89AGICT-ND; Supplier Device Package: MicroSMP (DO-219AD)
footprint DO-219AD MicroSMP
pins: 1, 2